# EAGLE library part HM-17 (library Qwiic-Bluetooth-HC1x)
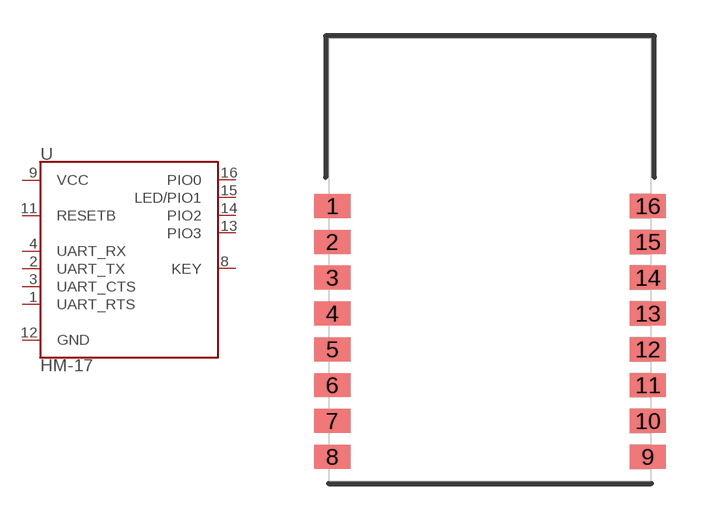
[diagram p2: symbol with the pads of HM-11; footprint HM-11]

Designator prefix U

## HM-17  [HM-11]
1  UART_RTS
2  UART_TX
3  UART_CTS
4  UART_RX
8  KEY
9  VCC
11  RESETB
12  GND
13  PIO3
14  PIO2
15  LED/PIO1
16  PIO0

## Footprint HM-11 (pad centres in mm)
smd 1.5 x 1: 1 -6.6,2.25; 2 -6.6,0.75; 3 -6.6,-0.75; 4 -6.6,-2.25; 5 -6.6,-3.75; 6 -6.6,-5.25; 7 -6.6,-6.75; 8 -6.6,-8.25; 9 6.6,-8.25; 10 6.6,-6.75; 11 6.6,-5.25; 12 6.6,-3.75; 13 6.6,-2.25; 14 6.6,-0.75; 15 6.6,0.75; 16 6.6,2.25